# EAGLE library part TLV76701DGNR (library TLV76701DGNR)
Linear Voltage Regulators Adjustable- and fixed-output, 1-A, 16-V, positive-voltage low-dropout (LDO) linear regulator 8-HVSSOP -40 to 125 Source: Datasheet <https://www.ti.com/lit/ds/symlink/tlv767.pdf?ts=1634721803014&ref_url=https%3A%2F%2Fwww.ti.com%2Fproduct%2FTLV767>
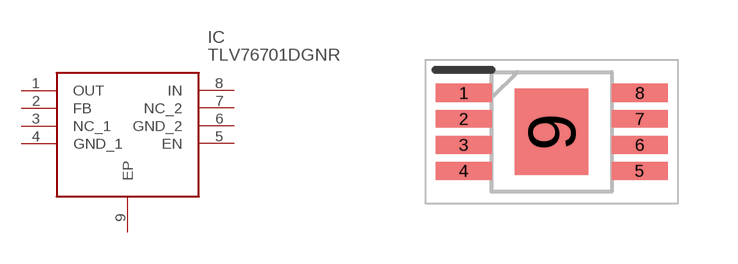
[diagram p0: symbol with the pads of SOP65P490X110-9N; footprint SOP65P490X110-9N]

Designator prefix IC

## TLV76701DGNR (Arrow_Part_Number: TLV76701DGNR; Arrow_Price-Stock: https://www.arrow.com/en/products/tlv76701dgnr/texas-instruments?region=nac; Description: Linear Voltage Regulators Adjustable- and fixed-output, 1-A, 16-V, positive-voltage low-dropout (LDO) linear regulator 8-HVSSOP -40 to 125; Height: 1.1mm; Manufacturer_Name: Texas Instruments; Manufacturer_Part_Number: TLV76701DGNR; Mouser_Part_Number: 595-TLV76701DGNR; Mouser_Price-Stock: https://www.mouser.co.uk/ProductDetail/Texas-Instruments/TLV76701DGNR?qs=QNEnbhJQKvYlzprjZl22mQ%3D%3D)  [SOP65P490X110-9N]
1  OUT
2  FB
3  NC_1
4  GND_1
5  EN
6  GND_2
7  NC_2
8  IN
9  EP

## Footprint SOP65P490X110-9N (pad centres in mm)
DGN (S-PDSO-G8)-
smd 1.4 x 0.45: 1 -2.2,0.975; 2 -2.2,0.325; 3 -2.2,-0.325; 4 -2.2,-0.975; 5 2.2,-0.975; 6 2.2,-0.325; 7 2.2,0.325; 8 2.2,0.975
smd 1.846 x 2.15: 9 0,0